# Altium footprint library SMW5R27JT.PcbLib: 1 footprints
Each footprint in its own frame and in the unit in brackets; x right, y up, seen from the top. Pads: shape width x height; smd on the part's side, far side on the other; paste and mask are expansions set on the pad; w line width, h text height; cw(c..) or ccw(c..) is an arc to the next point about the centre after c.
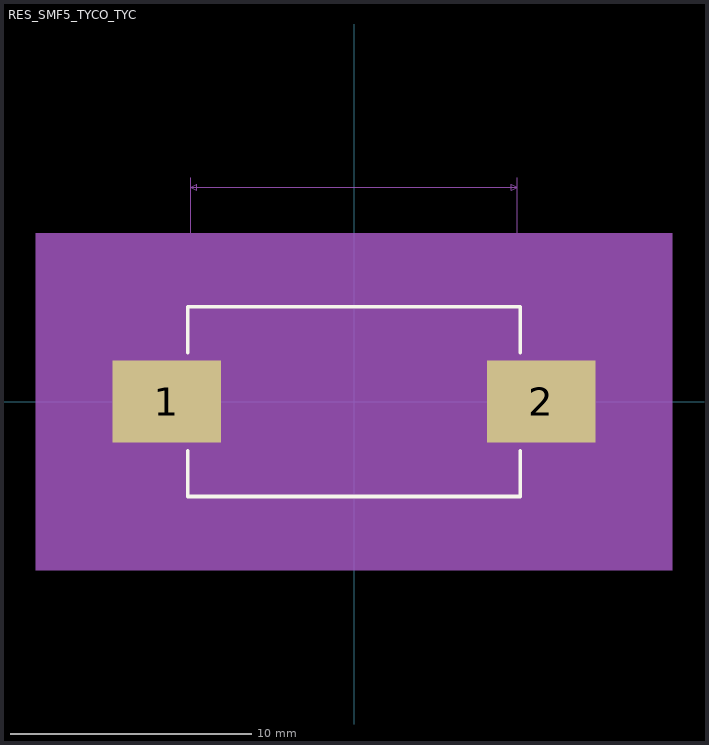
[diagram p0: the footprint, top view; thin cyan lines are the x and y axes]

## RES_SMF5_TYCO_TYC [mil]
pads (2):
  rect 177x134 smd paste+0 mask+0: 1(-305,0) 2(305,0)
Top Overlay:
  lines w6: -271,-80.1 -271,-154.5 271,-154.5 271,-80.1 ; -271,80.1 -271,154.5 271,154.5 271,80.1
Mechanical 5:
  region: 518.5,-274.5 -518.5,-274.5 -518.5,274.5 518.5,274.5
Mechanical 7:
  lines w1: -266,77 -266,364.5 ; -232,-149.5 276,-149.5 ; -232,149.5 276,149.5 ; 266,77 266,364.5 ; -266,349.5 -256,344.5 -256,354.5 -266,349.5 ; -266,349.5 266,349.5 ; -217,-149.5 -212,-139.5 -222,-139.5 -217,-149.5 ; -217,-149.5 -217,149.5 ; -217,149.5 -212,139.5 -222,139.5 -217,149.5 ; 266,349.5 256,344.5 256,354.5 266,349.5
  text "0.299in/7.595mm" at -424.5,-12.5 h25
  text "0.532in/13.513mm" at -100,369.5 h25
  text "Alt 2 Pad Style: EX90Y60D30P" at -350,-459.5 h50
  text "Alt 1 Pad Style: OX60Y90D30P" at -350,-409.5 h50
  text "Default Pad Style: RX177Y134D0T" at -387.5,-359.5 h50
Mechanical 13:
  lines w1: -266,-149.5 -266,149.5 266,149.5 266,-149.5 -266,-149.5
Mechanical 15:
  region: -276,-77 -403.5,-77 -403.5,77 -276,77 -276,159.5 276,159.5 276,77 403.5,77 403.5,-77 276,-77 276,-159.5 -276,-159.5
  lines w6: -403.5,-77 -276,-77 -276,-159.5 276,-159.5 276,-77 403.5,-77 403.5,77 276,77 276,159.5 -276,159.5 -276,77 -403.5,77 -403.5,-77
3D body: height 10, standoff 0, extent 0,0 10,10